# EAGLE library part ETHERNET-JACK (library dan-rj)
Ethernet Jack
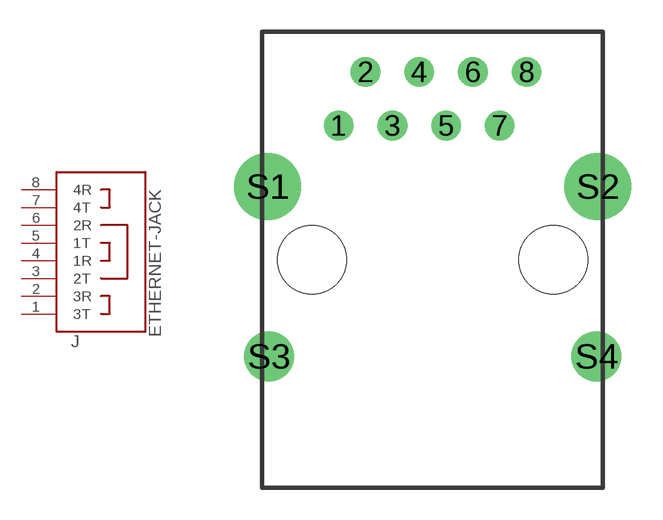
[diagram p0: symbol with the pads of RJ45-8P8C-CAT5E; footprint RJ45-8P8C-CAT5E]

Designator prefix J

## ETHERNET-JACK  [RJ45-8P8C-CAT5E]
1  3T  pas
2  3R  pas
3  2T  pas
4  1R  pas
5  1T  pas
6  2R  pas
7  4T  pas
8  4R  pas

## Footprint RJ45-8P8C-CAT5E (pad centres in mm)
RJ45/8P8C/CAT5E jack Right-angle (bottom-tab) or vertical e.g.: Stewart SS-7188S-A-NF: http://www.belfuse.com/Data/Datasheets/CT710001.pdf Molex 44050-0003: http://www.molex.com/pdm_docs/sd/440500003_sd.pdf Stewart SS-7188VS-A-NF-50: http://www.belfuse.com/data/datasheets/ct710116.pdf
drill 0.897 round: 1 -4.445,6.35; 2 -3.175,8.89; 3 -1.905,6.35; 4 -0.635,8.89; 5 0.635,6.35; 6 1.905,8.89; 7 3.175,6.35; 8 4.445,8.89
drill 2.159 round: S1 -7.811,3.467; S2 7.811,3.467
drill 1.575 round: S3 -7.747,-4.572; S4 7.747,-4.572
hole 3.251 at -5.715,0
hole 3.251 at 5.715,0